# Altium footprint library PcbLib1.PcbLib: 11 footprints
Each footprint in its own frame and in the unit in brackets; x right, y up, seen from the top. Pads: shape width x height; smd on the part's side, far side on the other; paste and mask are expansions set on the pad; w line width, h text height; cw(c..) or ccw(c..) is an arc to the next point about the centre after c.
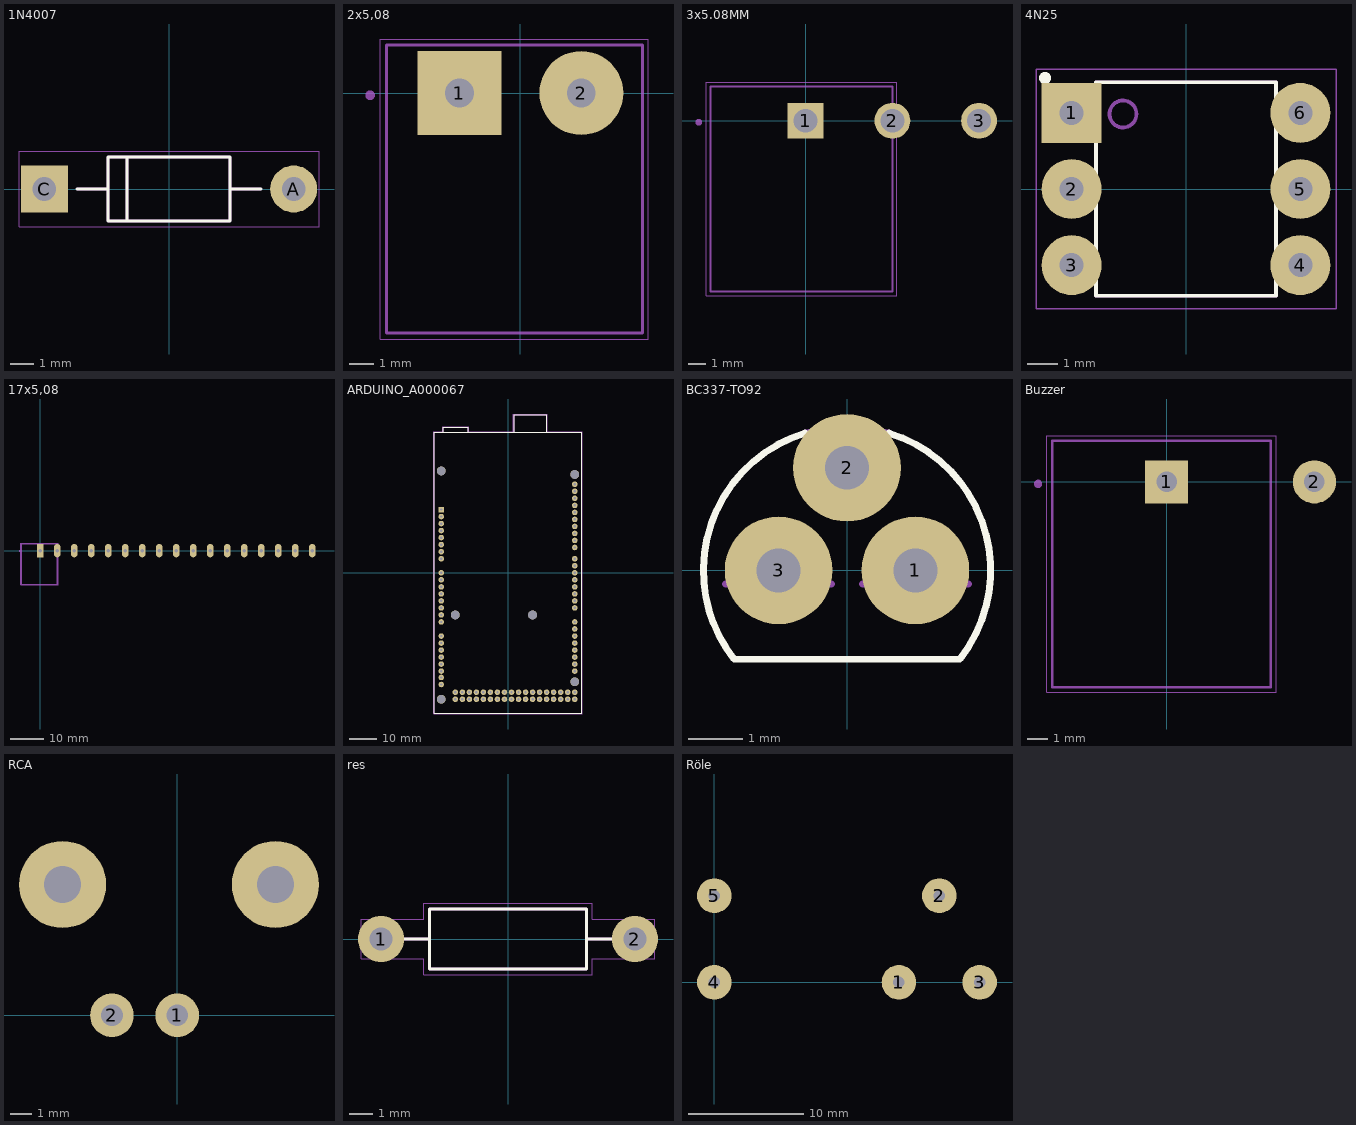
[diagram p0: the footprints below, top view; thin cyan lines are the x and y axes]

## 1N4007 [mm]
pads (2):
  round 2 hole 1: A(5.3,0)
  rect 2x2 hole 1: C(-5.3,0)
Top Overlay:
  lines w0.127: -3.9,0 -2.6,0 ; 3.9,0 2.6,0 ; -2.6,0 -2.6,-1.35 -1.775,-1.35 ; -2.6,0 -2.6,1.35 -1.775,1.35 ; -1.775,-1.35 -1.775,1.35 ; -1.775,-1.35 2.6,-1.35 2.6,0 ; -1.775,1.35 2.6,1.35 2.6,0
Mechanical 13:
  lines w0.127: -3.9,0 -2.6,0 ; 3.9,0 2.6,0 ; -2.6,0 -2.6,-1.35 -1.775,-1.35 ; -2.6,0 -2.6,1.35 -1.775,1.35 ; -1.775,-1.35 -1.775,1.35 ; -1.775,-1.35 2.6,-1.35 2.6,0 ; -1.775,1.35 2.6,1.35 2.6,0
Mechanical 15:
  lines w0.05: -6.375,-1.6 -6.375,1.6 6.375,1.6 6.375,-1.6 -6.375,-1.6

## 2x5,08 [mm]
pads (2):
  rect 3.5x3.5 hole 1.2: 1(-2.54,0)
  round 3.5 hole 1.2: 2(2.54,0)
Mechanical 13:
  circle w0.2: c-6.262,-0.094 r0.1
  lines w0.127: -5.58,-10 -5.58,2 5.08,2 5.08,-10 -5.58,-10
Mechanical 15:
  lines w0.05: -5.83,-10.25 -5.83,2.25 5.33,2.25 5.33,-10.25 -5.83,-10.25

## 3x5.08MM [mm]
pads (3):
  rect 2.1x2.1 hole 1.4: 1(0,0)
  round 2.1 hole 1.4: 2(5.08,0) 3(10.16,0)
Mechanical 13:
  circle w0.2: c-6.262,-0.094 r0.1
  lines w0.127: -5.58,-10 5.08,-10 5.08,2 -5.58,2 -5.58,-10
Mechanical 15:
  lines w0.05: -5.83,-10.25 5.33,-10.25 5.33,2.25 -5.83,2.25 -5.83,-10.25

## 4N25 [mm]
pads (6):
  rect 2x2 hole 0.8: 1(-3.81,2.54)
  round 2 hole 0.8: 2(-3.81,0) 3(-3.81,-2.54) 4(3.81,-2.54) 5(3.81,0) 6(3.81,2.54)
Top Overlay:
  circle w0.2: c-4.7,3.7 r0.1
  lines w0.127: -3,-3.56 -3,3.56 3,3.56 3,-3.56 -3,-3.56
Mechanical 13:
  circle w0.127: c-2.1,2.5 r0.45
  lines w0.127: -3,-3.56 -3,3.56 3,3.56 3,-3.56 -3,-3.56
Mechanical 15:
  lines w0.05: -5,-4 -5,4 5,4 5,-4 -5,-4

## 17x5,08 [mm]
pads (17):
  rect 2x4 hole 1: 1(0,0)
  oval 2x4 hole 1: 2(5.08,0) 3(10.16,0) 4(15.24,0) 5(20.32,0) 6(25.4,0) 7(30.48,0) 8(35.56,0) 9(40.64,0) 10(45.72,0) 11(50.8,0) 12(55.88,0) 13(60.96,0) 14(66.04,0) 15(71.12,0) 16(76.2,0) 17(81.28,0)
Mechanical 13:
  circle w0.2: c-6.262,-0.094 r0.1
  lines w0.127: -5.58,-10 5.08,-10 5.08,2 -5.58,2 -5.58,-10
Mechanical 15:
  lines w0.05: -5.83,-10.25 5.33,-10.25 5.33,2.25 -5.83,2.25 -5.83,-10.25

## ARDUINO_A000067 [mm]
pads (92):
  round 2 hole 0.85: 0(24.13,-12.7) 1(24.13,-10.16) 2(24.13,-7.62) 3(24.13,-5.08) 3V3(-24.13,15.24) 4(24.13,-2.54) 5(24.13,0) 5V_1(-24.13,12.7) 5V_2(24.13,-43.18) 5V_3(24.13,-45.72) 6(24.13,2.54) 7(24.13,5.08) 8(24.13,9.144) 9(24.13,11.684) 10(24.13,14.224) 11(24.13,16.764) 12(24.13,19.304) 13(24.13,21.844) 14(24.13,-17.78) 15(24.13,-20.32) 16(24.13,-22.86) 17(24.13,-25.4) 18(24.13,-27.94) 19(24.13,-30.48) 20(24.13,-33.02) 21(24.13,-35.56) 22(21.59,-43.18) 23(21.59,-45.72) 24(19.05,-43.18) 25(19.05,-45.72) 26(16.51,-43.18) 27(16.51,-45.72) 28(13.97,-43.18) 29(13.97,-45.72) 30(11.43,-43.18) 31(11.43,-45.72) 32(8.89,-43.18) 33(8.89,-45.72) 34(6.35,-43.18) 35(6.35,-45.72) 36(3.81,-43.18) 37(3.81,-45.72) 38(1.27,-43.18) 39(1.27,-45.72) 40(-1.27,-43.18) 41(-1.27,-45.72) 42(-3.81,-43.18) 43(-3.81,-45.72) 44(-6.35,-43.18) 45(-6.35,-45.72) 46(-8.89,-43.18) 47(-8.89,-45.72) 48(-11.43,-43.18) 49(-11.43,-45.72) 50(-13.97,-43.18) 51(-13.97,-45.72) 52(-16.51,-43.18) 53(-16.51,-45.72) AD0(-24.13,0) AD1(-24.13,-2.54) AD2(-24.13,-5.08) AD3(-24.13,-7.62) AD4(-24.13,-10.16) AD5(-24.13,-12.7) AD6(-24.13,-15.24) AD7(-24.13,-17.78) AD8(-24.13,-22.86) AD9(-24.13,-25.4) AD10(-24.13,-27.94) AD11(-24.13,-30.48) AD12(-24.13,-33.02) AD13(-24.13,-35.56) AD14(-24.13,-37.846) AD15(-24.13,-40.386) AREF(24.13,26.924) GND1(-24.13,10.16) GND2(-24.13,7.62) GND3(24.13,24.384) GND4(-19.05,-43.18) GND5(-19.05,-45.72) IOREF(-24.13,20.32) RESET(-24.13,17.78) SCL(24.13,32.004) SDA(24.13,29.464) VIN(-24.13,5.08)
  rect 2x2 hole 0.85: NC(-24.13,22.86)
  round 3.2 hole 3.2 unplated: ""(-24.13,-45.72) ""(-24.13,36.83) ""(-19.05,-15.24) ""(8.89,-15.24) ""(24.13,-39.37) ""(24.13,35.56)
Top Overlay:
  lines w0.127: -23.37,50.8 -26.67,50.8 -26.67,-50.8 26.67,-50.8 26.67,50.8 14.02,50.8 ; -23.37,50.8 -14.378,50.8 ; -23.37,50.8 -23.37,52.61 -14.378,52.61 -14.378,50.8 ; -14.378,50.8 2.22,50.8 ; 2.22,50.8 14.02,50.8 ; 2.22,50.8 2.22,57.15 14.02,57.15 14.02,50.8
Mechanical 13:
  lines w0.127: -23.37,50.8 -26.67,50.8 -26.67,-50.8 26.67,-50.8 26.67,50.8 14.02,50.8 ; -23.37,50.8 -14.378,50.8 ; -23.37,50.8 -23.37,52.61 -14.378,52.61 -14.378,50.8 ; -14.378,50.8 2.22,50.8 ; 2.22,50.8 14.02,50.8 ; 2.22,50.8 2.22,57.15 14.02,57.15 14.02,50.8
Mechanical 15:
  lines w0.05: -26.92,-51.05 26.92,-51.05 26.92,51.05 14.27,51.05 14.27,57.4 1.97,57.4 1.97,51.05 -14.128,51.05 -14.128,52.86 -23.62,52.86 -23.62,51.05 -26.92,51.05 -26.92,-51.05

## BC337-TO92 [mm]
pads (3):
  round 2 hole 0.813: 1(1.27,0) 2(0,1.905) 3(-1.27,0)
Top Overlay:
  lines w0.127: -2.102,-1.642 cw(c0,0) -2.657,-0.232 cw(c0,0) -0.78,2.551 ; -2.094,-1.651 2.094,-1.651 ; 0.78,2.55 cw(c0,0) 2.102,-1.642
Mechanical 13:
  lines w0.127: -2.254,-0.254 -0.286,-0.254 ; -0.78,2.551 cw(c0,0) 0.78,2.551 ; 0.286,-0.254 2.254,-0.254
  text "1" at 1.145,0 h1.27
  text "3" at -2.16,0 h1.27
  text "2" at -0.636,0.636 h1.27

## Buzzer [mm]
pads (2):
  rect 2.1x2.1 hole 1: 1(0,0)
  round 2.1 hole 1: 2(7.2,0)
Mechanical 13:
  circle w0.2: c-6.262,-0.094 r0.1
  lines w0.127: -5.58,-10 -5.58,2 5.08,2 5.08,-10 -5.58,-10
Mechanical 15:
  lines w0.05: -5.83,-10.25 -5.83,2.25 5.33,2.25 5.33,-10.25 -5.83,-10.25

## RCA [mm]
pads (4):
  round 2 hole 1: 1(0,0) 2(-3,0)
  round 4 hole 1.7: ""(-5.262,6) ""(4.5,6)

## res [mm]
pads (2):
  round 2 hole 1: 1(-5.5,0) 2(5.5,0)
Top Overlay:
  lines w0.127: -4.58,0 -3.4,0 ; 4.58,0 3.4,0 ; -3.4,0 -3.4,1.3 3.4,1.3 3.4,0 ; -3.4,0 -3.4,-1.3 3.4,-1.3 3.4,0
Mechanical 13:
  lines w0.127: -4.9,0 -3.4,0 ; 4.9,0 3.4,0 ; -3.4,0 -3.4,1.3 3.4,1.3 3.4,0 ; -3.4,0 -3.4,-1.3 3.4,-1.3 3.4,0
Mechanical 15:
  lines w0.05: -6.35,-0.85 -3.65,-0.85 -3.65,-1.55 3.65,-1.55 3.65,-0.85 6.35,-0.85 6.35,0.85 3.65,0.85 3.65,1.55 -3.65,1.55 -3.65,0.85 -6.35,0.85 -6.35,-0.85

## Röle [mm]
pads (5):
  round 3 hole 1: 1(16,0) 2(19.5,7.5) 3(23,0) 4(0,0) 5(0,7.5)